# EAGLE library part AP3441SHE-7B (library ds_ic_vreg)
1MHZ, 3A STEP-DOWN DC-DC BUCK CONVERTER
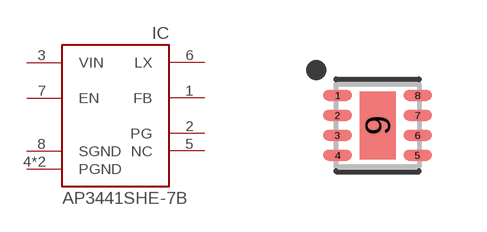
[diagram p25: symbol with the pads of SON50P201X201X56-9T90X170N; footprint SON50P201X201X56-9T90X170N]

Designator prefix IC

## AP3441SHE-7B (DATASHEET: https://www.diodes.com/assets/Datasheets/AP3441-L.pdf; DESCRIPTION: -40℃~+85℃@(TA) 1 1MHz 2.7V~5.5V 3A 55uA 600mV~5.5V Adjustable Buck Buck Built-In Yes DFN2020-8-EP DC-DC Converters ROHS; HQ_PART: PM0187385; LCSC_PART: C2070918; MANUFACTURER: Diodes Incorporated; MPN: AP3441SHE-7B; ROHS: YES; VALUE: AP3441SHE-7B)  [SON50P201X201X56-9T90X170N]
1  FB
2  PG
3  VIN  pwr
4  PGND  pwr
5  NC  nc
6  LX  pwr
7  EN
8  SGND  pwr
9  PGND  pwr

## Footprint SON50P201X201X56-9T90X170N (pad centres in mm)
8-SON (DFN), 0.50 mm pitch, 2.01 X 2.01 X 0.56 mm body, 1.70 X 0.90 mm thermal pad 8-pin SON (DFN) package with 0.50 mm pitch with body size 2.01 X 2.01 X 0.56 mm and thermal pad size 1.70 X 0.90 mm
smd 0.715 x 0.27: 1 -1.001,0.75; 2 -1.001,0.25; 3 -1.001,-0.25; 4 -1.001,-0.75; 5 1.001,-0.75; 6 1.001,-0.25; 7 1.001,0.25; 8 1.001,0.75
smd 0.9 x 1.7: 9 0,0